# Altium footprint library Full_lib.PcbLib: 247 footprints (part 2 of 16)
Each footprint in its own frame and in the unit in brackets; x right, y up, seen from the top. Pads: shape width x height; smd on the part's side, far side on the other; paste and mask are expansions set on the pad; w line width, h text height; cw(c..) or ccw(c..) is an arc to the next point about the centre after c.
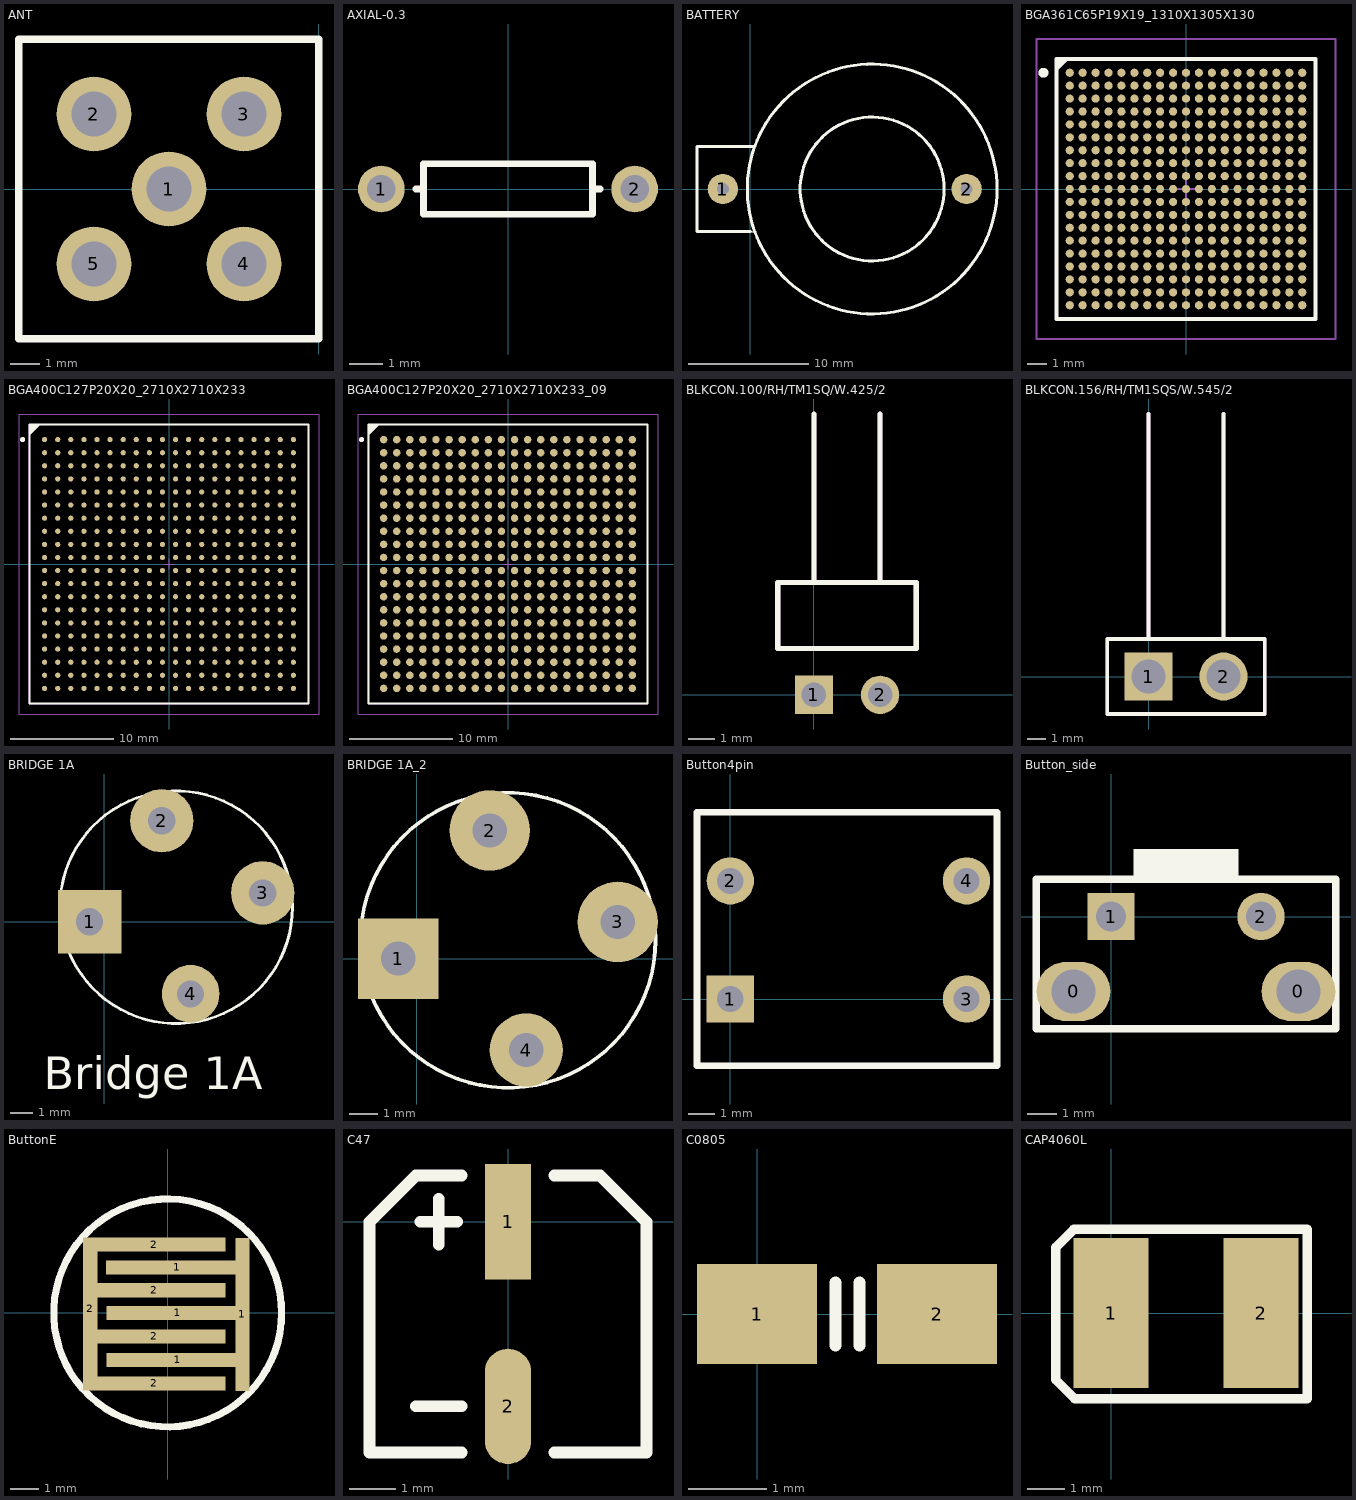
[diagram p1: the footprints below, top view; thin cyan lines are the x and y axes]

## ANT [mil]
pads (5):
  round 100 hole 60: 1(-200,0) 2(-300,100) 3(-100,100) 4(-100,-100) 5(-300,-100)
Top Overlay:
  lines w10: -400,-200 -400,200 0,200 0,-200 -400,-200

## AXIAL-0.3 [mm] "Axial Device, Thru-Hole; 2 Leads; 0.3 in Pin Spacing"
height 1.524
pads (2):
  round 1.4 hole 0.85: 1(-3.81,0) 2(3.81,0)
Top Overlay:
  lines w0.2: -2.769,0 -2.54,0 ; 2.769,0 2.54,0 ; 2.54,0 2.54,0.762 -2.54,0.762 -2.54,-0.762 2.54,-0.762 2.54,0

## BATTERY [mil]
pads (2):
  round 100 hole 40: 1(-90,0) 2(710,0)
Top Overlay:
  circle w10: c400,0 r410
  circle w10: c400,0 r236.33
  lines w3.94: 0,-140 15,-140
  lines w10: 0,-140 -175,-140 -175,140 15,140

## BGA361C65P19X19_1310X1305X130 [mm] "BGA, 361-Leads, Body 13.1x13.1mm,  Pitch 0.65mm"
height 1.3
pads (361):
  round 0.41 smd: A1(-5.85,5.85) A2(-5.2,5.85) A3(-4.55,5.85) A4(-3.9,5.85) A5(-3.25,5.85) A6(-2.6,5.85) A7(-1.95,5.85) A8(-1.3,5.85) A9(-0.65,5.85) A10(0,5.85) A11(0.65,5.85) A12(1.3,5.85) A13(1.95,5.85) A14(2.6,5.85) A15(3.25,5.85) A16(3.9,5.85) A17(4.55,5.85) A18(5.2,5.85) A19(5.85,5.85) B1(-5.85,5.2) B2(-5.2,5.2) B3(-4.55,5.2) B4(-3.9,5.2) B5(-3.25,5.2) B6(-2.6,5.2) B7(-1.95,5.2) B8(-1.3,5.2) B9(-0.65,5.2) B10(0,5.2) B11(0.65,5.2) B12(1.3,5.2) B13(1.95,5.2) B14(2.6,5.2) B15(3.25,5.2) B16(3.9,5.2) B17(4.55,5.2) B18(5.2,5.2) B19(5.85,5.2) C1(-5.85,4.55) C2(-5.2,4.55) C3(-4.55,4.55) C4(-3.9,4.55) C5(-3.25,4.55) C6(-2.6,4.55) C7(-1.95,4.55) C8(-1.3,4.55) C9(-0.65,4.55) C10(0,4.55) C11(0.65,4.55) C12(1.3,4.55) C13(1.95,4.55) C14(2.6,4.55) C15(3.25,4.55) C16(3.9,4.55) C17(4.55,4.55) C18(5.2,4.55) C19(5.85,4.55) D1(-5.85,3.9) D2(-5.2,3.9) D3(-4.55,3.9) D4(-3.9,3.9) D5(-3.25,3.9) D6(-2.6,3.9) D7(-1.95,3.9) D8(-1.3,3.9) D9(-0.65,3.9) D10(0,3.9) D11(0.65,3.9) D12(1.3,3.9) D13(1.95,3.9) D14(2.6,3.9) D15(3.25,3.9) D16(3.9,3.9) D17(4.55,3.9) D18(5.2,3.9) D19(5.85,3.9) E1(-5.85,3.25) E2(-5.2,3.25) E3(-4.55,3.25) E4(-3.9,3.25) E5(-3.25,3.25) E6(-2.6,3.25) E7(-1.95,3.25) E8(-1.3,3.25) E9(-0.65,3.25) E10(0,3.25) E11(0.65,3.25) E12(1.3,3.25) E13(1.95,3.25) E14(2.6,3.25) E15(3.25,3.25) E16(3.9,3.25) E17(4.55,3.25) E18(5.2,3.25) E19(5.85,3.25) F1(-5.85,2.6) F2(-5.2,2.6) F3(-4.55,2.6) F4(-3.9,2.6) F5(-3.25,2.6) F6(-2.6,2.6) F7(-1.95,2.6) F8(-1.3,2.6) F9(-0.65,2.6) F10(0,2.6) F11(0.65,2.6) F12(1.3,2.6) F13(1.95,2.6) F14(2.6,2.6) F15(3.25,2.6) F16(3.9,2.6) F17(4.55,2.6) F18(5.2,2.6) F19(5.85,2.6) G1(-5.85,1.95) G2(-5.2,1.95) G3(-4.55,1.95) G4(-3.9,1.95) G5(-3.25,1.95) G6(-2.6,1.95) G7(-1.95,1.95) G8(-1.3,1.95) G9(-0.65,1.95) G10(0,1.95) G11(0.65,1.95) G12(1.3,1.95) G13(1.95,1.95) G14(2.6,1.95) G15(3.25,1.95) G16(3.9,1.95) G17(4.55,1.95) G18(5.2,1.95) G19(5.85,1.95) H1(-5.85,1.3) H2(-5.2,1.3) H3(-4.55,1.3) H4(-3.9,1.3) H5(-3.25,1.3) H6(-2.6,1.3) H7(-1.95,1.3) H8(-1.3,1.3) H9(-0.65,1.3) H10(0,1.3) H11(0.65,1.3) H12(1.3,1.3) H13(1.95,1.3) H14(2.6,1.3) H15(3.25,1.3) H16(3.9,1.3) H17(4.55,1.3) H18(5.2,1.3) H19(5.85,1.3) J1(-5.85,0.65) J2(-5.2,0.65) J3(-4.55,0.65) J4(-3.9,0.65) J5(-3.25,0.65) J6(-2.6,0.65) J7(-1.95,0.65) J8(-1.3,0.65) J9(-0.65,0.65) J10(0,0.65) J11(0.65,0.65) J12(1.3,0.65) J13(1.95,0.65) J14(2.6,0.65) J15(3.25,0.65) J16(3.9,0.65) J17(4.55,0.65) J18(5.2,0.65) J19(5.85,0.65) K1(-5.85,0) K2(-5.2,0) K3(-4.55,0) K4(-3.9,0) K5(-3.25,0) K6(-2.6,0) K7(-1.95,0) K8(-1.3,0) K9(-0.65,0) K10(0,0) K11(0.65,0) K12(1.3,0) K13(1.95,0) K14(2.6,0) K15(3.25,0) K16(3.9,0) K17(4.55,0) K18(5.2,0) K19(5.85,0) L1(-5.85,-0.65) L2(-5.2,-0.65) L3(-4.55,-0.65) L4(-3.9,-0.65) L5(-3.25,-0.65) L6(-2.6,-0.65) L7(-1.95,-0.65) L8(-1.3,-0.65) L9(-0.65,-0.65) L10(0,-0.65) L11(0.65,-0.65) L12(1.3,-0.65) L13(1.95,-0.65) L14(2.6,-0.65) L15(3.25,-0.65) L16(3.9,-0.65) L17(4.55,-0.65) L18(5.2,-0.65) L19(5.85,-0.65) M1(-5.85,-1.3) M2(-5.2,-1.3) M3(-4.55,-1.3) M4(-3.9,-1.3) M5(-3.25,-1.3) M6(-2.6,-1.3) M7(-1.95,-1.3) M8(-1.3,-1.3) M9(-0.65,-1.3) M10(0,-1.3) M11(0.65,-1.3) M12(1.3,-1.3) M13(1.95,-1.3) M14(2.6,-1.3) M15(3.25,-1.3) M16(3.9,-1.3) M17(4.55,-1.3) M18(5.2,-1.3) M19(5.85,-1.3) N1(-5.85,-1.95) N2(-5.2,-1.95) N3(-4.55,-1.95) N4(-3.9,-1.95) N5(-3.25,-1.95) N6(-2.6,-1.95) N7(-1.95,-1.95) N8(-1.3,-1.95) N9(-0.65,-1.95) N10(0,-1.95) N11(0.65,-1.95) N12(1.3,-1.95) N13(1.95,-1.95) N14(2.6,-1.95) N15(3.25,-1.95) N16(3.9,-1.95) N17(4.55,-1.95) N18(5.2,-1.95) N19(5.85,-1.95) P1(-5.85,-2.6) P2(-5.2,-2.6) P3(-4.55,-2.6) P4(-3.9,-2.6) P5(-3.25,-2.6) P6(-2.6,-2.6) P7(-1.95,-2.6) P8(-1.3,-2.6) P9(-0.65,-2.6) P10(0,-2.6) P11(0.65,-2.6) P12(1.3,-2.6) P13(1.95,-2.6) P14(2.6,-2.6) P15(3.25,-2.6) P16(3.9,-2.6) P17(4.55,-2.6) P18(5.2,-2.6) P19(5.85,-2.6) R1(-5.85,-3.25) R2(-5.2,-3.25) R3(-4.55,-3.25) R4(-3.9,-3.25) R5(-3.25,-3.25) R6(-2.6,-3.25) R7(-1.95,-3.25) R8(-1.3,-3.25) R9(-0.65,-3.25) R10(0,-3.25) R11(0.65,-3.25) R12(1.3,-3.25) R13(1.95,-3.25) R14(2.6,-3.25) R15(3.25,-3.25) R16(3.9,-3.25) R17(4.55,-3.25) R18(5.2,-3.25) R19(5.85,-3.25) T1(-5.85,-3.9) T2(-5.2,-3.9) T3(-4.55,-3.9) T4(-3.9,-3.9) T5(-3.25,-3.9) T6(-2.6,-3.9) T7(-1.95,-3.9) T8(-1.3,-3.9) T9(-0.65,-3.9) T10(0,-3.9) T11(0.65,-3.9) T12(1.3,-3.9) T13(1.95,-3.9) T14(2.6,-3.9) T15(3.25,-3.9) T16(3.9,-3.9) T17(4.55,-3.9) T18(5.2,-3.9) T19(5.85,-3.9) U1(-5.85,-4.55) U2(-5.2,-4.55) U3(-4.55,-4.55) U4(-3.9,-4.55) U5(-3.25,-4.55) U6(-2.6,-4.55) U7(-1.95,-4.55) U8(-1.3,-4.55) U9(-0.65,-4.55) U10(0,-4.55) U11(0.65,-4.55) U12(1.3,-4.55) U13(1.95,-4.55) U14(2.6,-4.55) U15(3.25,-4.55) U16(3.9,-4.55) U17(4.55,-4.55) U18(5.2,-4.55) U19(5.85,-4.55) V1(-5.85,-5.2) V2(-5.2,-5.2) V3(-4.55,-5.2) V4(-3.9,-5.2) V5(-3.25,-5.2) V6(-2.6,-5.2) V7(-1.95,-5.2) V8(-1.3,-5.2) V9(-0.65,-5.2) V10(0,-5.2) V11(0.65,-5.2) V12(1.3,-5.2) V13(1.95,-5.2) V14(2.6,-5.2) V15(3.25,-5.2) V16(3.9,-5.2) V17(4.55,-5.2) V18(5.2,-5.2) V19(5.85,-5.2) W1(-5.85,-5.85) W2(-5.2,-5.85) W3(-4.55,-5.85) W4(-3.9,-5.85) W5(-3.25,-5.85) W6(-2.6,-5.85) W7(-1.95,-5.85) W8(-1.3,-5.85) W9(-0.65,-5.85) W10(0,-5.85) W11(0.65,-5.85) W12(1.3,-5.85) W13(1.95,-5.85) W14(2.6,-5.85) W15(3.25,-5.85) W16(3.9,-5.85) W17(4.55,-5.85) W18(5.2,-5.85) W19(5.85,-5.85)
Top Overlay:
  circle w0.25: c-7.175,5.85 r0.125
  region: -6.005,6.55 -6.525,6.03 -6.525,6.55
  lines w0.2: -6.525,6.03 -6.005,6.55 ; -6.525,-6.55 -6.525,6.55 6.525,6.55 6.525,-6.55 -6.525,-6.55
Mechanical 13:
  lines w0.1: -6.525,-6.55 -6.525,6.55 6.525,6.55 6.525,-6.55 -6.525,-6.55
Mechanical 15:
  lines w0.1: -0.5,0 0.5,0 ; 0,-0.5 0,0.5 ; -7.525,-7.55 -7.525,7.55 7.525,7.55 7.525,-7.55 -7.525,-7.55
3D body: height 1.3, standoff 0.33, extent -6.525,-6.55 6.525,6.55

## BGA400C127P20X20_2710X2710X233 [mm] "BGA, 400-Leads, Body 27.1x27.1mm,  Pitch 1.27mm"
height 2.33
pads (400):
  round 0.5 smd: A1(-12.065,12.065) A2(-10.795,12.065) A3(-9.525,12.065) A4(-8.255,12.065) A5(-6.985,12.065) A6(-5.715,12.065) A7(-4.445,12.065) A8(-3.175,12.065) A9(-1.905,12.065) A10(-0.635,12.065) A11(0.635,12.065) A12(1.905,12.065) A13(3.175,12.065) A14(4.445,12.065) A15(5.715,12.065) A16(6.985,12.065) A17(8.255,12.065) A18(9.525,12.065) A19(10.795,12.065) A20(12.065,12.065) B1(-12.065,10.795) B2(-10.795,10.795) B3(-9.525,10.795) B4(-8.255,10.795) B5(-6.985,10.795) B6(-5.715,10.795) B7(-4.445,10.795) B8(-3.175,10.795) B9(-1.905,10.795) B10(-0.635,10.795) B11(0.635,10.795) B12(1.905,10.795) B13(3.175,10.795) B14(4.445,10.795) B15(5.715,10.795) B16(6.985,10.795) B17(8.255,10.795) B18(9.525,10.795) B19(10.795,10.795) B20(12.065,10.795) C1(-12.065,9.525) C2(-10.795,9.525) C3(-9.525,9.525) C4(-8.255,9.525) C5(-6.985,9.525) C6(-5.715,9.525) C7(-4.445,9.525) C8(-3.175,9.525) C9(-1.905,9.525) C10(-0.635,9.525) C11(0.635,9.525) C12(1.905,9.525) C13(3.175,9.525) C14(4.445,9.525) C15(5.715,9.525) C16(6.985,9.525) C17(8.255,9.525) C18(9.525,9.525) C19(10.795,9.525) C20(12.065,9.525) D1(-12.065,8.255) D2(-10.795,8.255) D3(-9.525,8.255) D4(-8.255,8.255) D5(-6.985,8.255) D6(-5.715,8.255) D7(-4.445,8.255) D8(-3.175,8.255) D9(-1.905,8.255) D10(-0.635,8.255) D11(0.635,8.255) D12(1.905,8.255) D13(3.175,8.255) D14(4.445,8.255) D15(5.715,8.255) D16(6.985,8.255) D17(8.255,8.255) D18(9.525,8.255) D19(10.795,8.255) D20(12.065,8.255) E1(-12.065,6.985) E2(-10.795,6.985) E3(-9.525,6.985) E4(-8.255,6.985) E5(-6.985,6.985) E6(-5.715,6.985) E7(-4.445,6.985) E8(-3.175,6.985) E9(-1.905,6.985) E10(-0.635,6.985) E11(0.635,6.985) E12(1.905,6.985) E13(3.175,6.985) E14(4.445,6.985) E15(5.715,6.985) E16(6.985,6.985) E17(8.255,6.985) E18(9.525,6.985) E19(10.795,6.985) E20(12.065,6.985) F1(-12.065,5.715) F2(-10.795,5.715) F3(-9.525,5.715) F4(-8.255,5.715) F5(-6.985,5.715) F6(-5.715,5.715) F7(-4.445,5.715) F8(-3.175,5.715) F9(-1.905,5.715) F10(-0.635,5.715) F11(0.635,5.715) F12(1.905,5.715) F13(3.175,5.715) F14(4.445,5.715) F15(5.715,5.715) F16(6.985,5.715) F17(8.255,5.715) F18(9.525,5.715) F19(10.795,5.715) F20(12.065,5.715) G1(-12.065,4.445) G2(-10.795,4.445) G3(-9.525,4.445) G4(-8.255,4.445) G5(-6.985,4.445) G6(-5.715,4.445) G7(-4.445,4.445) G8(-3.175,4.445) G9(-1.905,4.445) G10(-0.635,4.445) G11(0.635,4.445) G12(1.905,4.445) G13(3.175,4.445) G14(4.445,4.445) G15(5.715,4.445) G16(6.985,4.445) G17(8.255,4.445) G18(9.525,4.445) G19(10.795,4.445) G20(12.065,4.445) H1(-12.065,3.175) H2(-10.795,3.175) H3(-9.525,3.175) H4(-8.255,3.175) H5(-6.985,3.175) H6(-5.715,3.175) H7(-4.445,3.175) H8(-3.175,3.175) H9(-1.905,3.175) H10(-0.635,3.175) H11(0.635,3.175) H12(1.905,3.175) H13(3.175,3.175) H14(4.445,3.175) H15(5.715,3.175) H16(6.985,3.175) H17(8.255,3.175) H18(9.525,3.175) H19(10.795,3.175) H20(12.065,3.175) J1(-12.065,1.905) J2(-10.795,1.905) J3(-9.525,1.905) J4(-8.255,1.905) J5(-6.985,1.905) J6(-5.715,1.905) J7(-4.445,1.905) J8(-3.175,1.905) J9(-1.905,1.905) J10(-0.635,1.905) J11(0.635,1.905) J12(1.905,1.905) J13(3.175,1.905) J14(4.445,1.905) J15(5.715,1.905) J16(6.985,1.905) J17(8.255,1.905) J18(9.525,1.905) J19(10.795,1.905) J20(12.065,1.905) K1(-12.065,0.635) K2(-10.795,0.635) K3(-9.525,0.635) K4(-8.255,0.635) K5(-6.985,0.635) K6(-5.715,0.635) K7(-4.445,0.635) K8(-3.175,0.635) K9(-1.905,0.635) K10(-0.635,0.635) K11(0.635,0.635) K12(1.905,0.635) K13(3.175,0.635) K14(4.445,0.635) K15(5.715,0.635) K16(6.985,0.635) K17(8.255,0.635) K18(9.525,0.635) K19(10.795,0.635) K20(12.065,0.635) L1(-12.065,-0.635) L2(-10.795,-0.635) L3(-9.525,-0.635) L4(-8.255,-0.635) L5(-6.985,-0.635) L6(-5.715,-0.635) L7(-4.445,-0.635) L8(-3.175,-0.635) L9(-1.905,-0.635) L10(-0.635,-0.635) L11(0.635,-0.635) L12(1.905,-0.635) L13(3.175,-0.635) L14(4.445,-0.635) L15(5.715,-0.635) L16(6.985,-0.635) L17(8.255,-0.635) L18(9.525,-0.635) L19(10.795,-0.635) L20(12.065,-0.635) M1(-12.065,-1.905) M2(-10.795,-1.905) M3(-9.525,-1.905) M4(-8.255,-1.905) M5(-6.985,-1.905) M6(-5.715,-1.905) M7(-4.445,-1.905) M8(-3.175,-1.905) M9(-1.905,-1.905) M10(-0.635,-1.905) M11(0.635,-1.905) M12(1.905,-1.905) M13(3.175,-1.905) M14(4.445,-1.905) M15(5.715,-1.905) M16(6.985,-1.905) M17(8.255,-1.905) M18(9.525,-1.905) M19(10.795,-1.905) M20(12.065,-1.905) N1(-12.065,-3.175) N2(-10.795,-3.175) N3(-9.525,-3.175) N4(-8.255,-3.175) N5(-6.985,-3.175) N6(-5.715,-3.175) N7(-4.445,-3.175) N8(-3.175,-3.175) N9(-1.905,-3.175) N10(-0.635,-3.175) N11(0.635,-3.175) N12(1.905,-3.175) N13(3.175,-3.175) N14(4.445,-3.175) N15(5.715,-3.175) N16(6.985,-3.175) N17(8.255,-3.175) N18(9.525,-3.175) N19(10.795,-3.175) N20(12.065,-3.175) P1(-12.065,-4.445) P2(-10.795,-4.445) P3(-9.525,-4.445) P4(-8.255,-4.445) P5(-6.985,-4.445) P6(-5.715,-4.445) P7(-4.445,-4.445) P8(-3.175,-4.445) P9(-1.905,-4.445) P10(-0.635,-4.445) P11(0.635,-4.445) P12(1.905,-4.445) P13(3.175,-4.445) P14(4.445,-4.445) P15(5.715,-4.445) P16(6.985,-4.445) P17(8.255,-4.445) P18(9.525,-4.445) P19(10.795,-4.445) P20(12.065,-4.445) R1(-12.065,-5.715) R2(-10.795,-5.715) R3(-9.525,-5.715) R4(-8.255,-5.715) R5(-6.985,-5.715) R6(-5.715,-5.715) R7(-4.445,-5.715) R8(-3.175,-5.715) R9(-1.905,-5.715) R10(-0.635,-5.715) R11(0.635,-5.715) R12(1.905,-5.715) R13(3.175,-5.715) R14(4.445,-5.715) R15(5.715,-5.715) R16(6.985,-5.715) R17(8.255,-5.715) R18(9.525,-5.715) R19(10.795,-5.715) R20(12.065,-5.715) T1(-12.065,-6.985) T2(-10.795,-6.985) T3(-9.525,-6.985) T4(-8.255,-6.985) T5(-6.985,-6.985) T6(-5.715,-6.985) T7(-4.445,-6.985) T8(-3.175,-6.985) T9(-1.905,-6.985) T10(-0.635,-6.985) T11(0.635,-6.985) T12(1.905,-6.985) T13(3.175,-6.985) T14(4.445,-6.985) T15(5.715,-6.985) T16(6.985,-6.985) T17(8.255,-6.985) T18(9.525,-6.985) T19(10.795,-6.985) T20(12.065,-6.985) U1(-12.065,-8.255) U2(-10.795,-8.255) U3(-9.525,-8.255) U4(-8.255,-8.255) U5(-6.985,-8.255) U6(-5.715,-8.255) U7(-4.445,-8.255) U8(-3.175,-8.255) U9(-1.905,-8.255) U10(-0.635,-8.255) U11(0.635,-8.255) U12(1.905,-8.255) U13(3.175,-8.255) U14(4.445,-8.255) U15(5.715,-8.255) U16(6.985,-8.255) U17(8.255,-8.255) U18(9.525,-8.255) U19(10.795,-8.255) U20(12.065,-8.255) V1(-12.065,-9.525) V2(-10.795,-9.525) V3(-9.525,-9.525) V4(-8.255,-9.525) V5(-6.985,-9.525) V6(-5.715,-9.525) V7(-4.445,-9.525) V8(-3.175,-9.525) V9(-1.905,-9.525) V10(-0.635,-9.525) V11(0.635,-9.525) V12(1.905,-9.525) V13(3.175,-9.525) V14(4.445,-9.525) V15(5.715,-9.525) V16(6.985,-9.525) V17(8.255,-9.525) V18(9.525,-9.525) V19(10.795,-9.525) V20(12.065,-9.525) W1(-12.065,-10.795) W2(-10.795,-10.795) W3(-9.525,-10.795) W4(-8.255,-10.795) W5(-6.985,-10.795) W6(-5.715,-10.795) W7(-4.445,-10.795) W8(-3.175,-10.795) W9(-1.905,-10.795) W10(-0.635,-10.795) W11(0.635,-10.795) W12(1.905,-10.795) W13(3.175,-10.795) W14(4.445,-10.795) W15(5.715,-10.795) W16(6.985,-10.795) W17(8.255,-10.795) W18(9.525,-10.795) W19(10.795,-10.795) W20(12.065,-10.795) Y1(-12.065,-12.065) Y2(-10.795,-12.065) Y3(-9.525,-12.065) Y4(-8.255,-12.065) Y5(-6.985,-12.065) Y6(-5.715,-12.065) Y7(-4.445,-12.065) Y8(-3.175,-12.065) Y9(-1.905,-12.065) Y10(-0.635,-12.065) Y11(0.635,-12.065) Y12(1.905,-12.065) Y13(3.175,-12.065) Y14(4.445,-12.065) Y15(5.715,-12.065) Y16(6.985,-12.065) Y17(8.255,-12.065) Y18(9.525,-12.065) Y19(10.795,-12.065) Y20(12.065,-12.065)
Top Overlay:
  circle w0.25: c-14.2,12.065 r0.125
  region: -12.55,13.55 -13.55,12.55 -13.55,13.55
  lines w0.2: -13.55,12.55 -12.55,13.55 ; -13.55,-13.55 -13.55,13.55 13.55,13.55 13.55,-13.55 -13.55,-13.55
Mechanical 13:
  lines w0.1: -13.55,-13.55 -13.55,13.55 13.55,13.55 13.55,-13.55 -13.55,-13.55
Mechanical 15:
  lines w0.1: -0.5,0 0.5,0 ; 0,-0.5 0,0.5 ; -14.55,-14.55 -14.55,14.55 14.55,14.55 14.55,-14.55 -14.55,-14.55
3D body: height 2.33, standoff 0.5, extent -13.55,-13.55 13.55,13.55

## BGA400C127P20X20_2710X2710X233_09 [mm] "BGA, 400-Leads, Body 27.1x27.1mm,  Pitch 1.27mm"
height 2.33
pads (400):
  round 0.72 smd: A1(-12.065,12.065) A2(-10.795,12.065) A3(-9.525,12.065) A4(-8.255,12.065) A5(-6.985,12.065) A6(-5.715,12.065) A7(-4.445,12.065) A8(-3.175,12.065) A9(-1.905,12.065) A10(-0.635,12.065) A11(0.635,12.065) A12(1.905,12.065) A13(3.175,12.065) A14(4.445,12.065) A15(5.715,12.065) A16(6.985,12.065) A17(8.255,12.065) A18(9.525,12.065) A19(10.795,12.065) A20(12.065,12.065) B1(-12.065,10.795) B2(-10.795,10.795) B3(-9.525,10.795) B4(-8.255,10.795) B5(-6.985,10.795) B6(-5.715,10.795) B7(-4.445,10.795) B8(-3.175,10.795) B9(-1.905,10.795) B10(-0.635,10.795) B11(0.635,10.795) B12(1.905,10.795) B13(3.175,10.795) B14(4.445,10.795) B15(5.715,10.795) B16(6.985,10.795) B17(8.255,10.795) B18(9.525,10.795) B19(10.795,10.795) B20(12.065,10.795) C1(-12.065,9.525) C2(-10.795,9.525) C3(-9.525,9.525) C4(-8.255,9.525) C5(-6.985,9.525) C6(-5.715,9.525) C7(-4.445,9.525) C8(-3.175,9.525) C9(-1.905,9.525) C10(-0.635,9.525) C11(0.635,9.525) C12(1.905,9.525) C13(3.175,9.525) C14(4.445,9.525) C15(5.715,9.525) C16(6.985,9.525) C17(8.255,9.525) C18(9.525,9.525) C19(10.795,9.525) C20(12.065,9.525) D1(-12.065,8.255) D2(-10.795,8.255) D3(-9.525,8.255) D4(-8.255,8.255) D5(-6.985,8.255) D6(-5.715,8.255) D7(-4.445,8.255) D8(-3.175,8.255) D9(-1.905,8.255) D10(-0.635,8.255) D11(0.635,8.255) D12(1.905,8.255) D13(3.175,8.255) D14(4.445,8.255) D15(5.715,8.255) D16(6.985,8.255) D17(8.255,8.255) D18(9.525,8.255) D19(10.795,8.255) D20(12.065,8.255) E1(-12.065,6.985) E2(-10.795,6.985) E3(-9.525,6.985) E4(-8.255,6.985) E5(-6.985,6.985) E6(-5.715,6.985) E7(-4.445,6.985) E8(-3.175,6.985) E9(-1.905,6.985) E10(-0.635,6.985) E11(0.635,6.985) E12(1.905,6.985) E13(3.175,6.985) E14(4.445,6.985) E15(5.715,6.985) E16(6.985,6.985) E17(8.255,6.985) E18(9.525,6.985) E19(10.795,6.985) E20(12.065,6.985) F1(-12.065,5.715) F2(-10.795,5.715) F3(-9.525,5.715) F4(-8.255,5.715) F5(-6.985,5.715) F6(-5.715,5.715) F7(-4.445,5.715) F8(-3.175,5.715) F9(-1.905,5.715) F10(-0.635,5.715) F11(0.635,5.715) F12(1.905,5.715) F13(3.175,5.715) F14(4.445,5.715) F15(5.715,5.715) F16(6.985,5.715) F17(8.255,5.715) F18(9.525,5.715) F19(10.795,5.715) F20(12.065,5.715) G1(-12.065,4.445) G2(-10.795,4.445) G3(-9.525,4.445) G4(-8.255,4.445) G5(-6.985,4.445) G6(-5.715,4.445) G7(-4.445,4.445) G8(-3.175,4.445) G9(-1.905,4.445) G10(-0.635,4.445) G11(0.635,4.445) G12(1.905,4.445) G13(3.175,4.445) G14(4.445,4.445) G15(5.715,4.445) G16(6.985,4.445) G17(8.255,4.445) G18(9.525,4.445) G19(10.795,4.445) G20(12.065,4.445) H1(-12.065,3.175) H2(-10.795,3.175) H3(-9.525,3.175) H4(-8.255,3.175) H5(-6.985,3.175) H6(-5.715,3.175) H7(-4.445,3.175) H8(-3.175,3.175) H9(-1.905,3.175) H10(-0.635,3.175) H11(0.635,3.175) H12(1.905,3.175) H13(3.175,3.175) H14(4.445,3.175) H15(5.715,3.175) H16(6.985,3.175) H17(8.255,3.175) H18(9.525,3.175) H19(10.795,3.175) H20(12.065,3.175) J1(-12.065,1.905) J2(-10.795,1.905) J3(-9.525,1.905) J4(-8.255,1.905) J5(-6.985,1.905) J6(-5.715,1.905) J7(-4.445,1.905) J8(-3.175,1.905) J9(-1.905,1.905) J10(-0.635,1.905) J11(0.635,1.905) J12(1.905,1.905) J13(3.175,1.905) J14(4.445,1.905) J15(5.715,1.905) J16(6.985,1.905) J17(8.255,1.905) J18(9.525,1.905) J19(10.795,1.905) J20(12.065,1.905) K1(-12.065,0.635) K2(-10.795,0.635) K3(-9.525,0.635) K4(-8.255,0.635) K5(-6.985,0.635) K6(-5.715,0.635) K7(-4.445,0.635) K8(-3.175,0.635) K9(-1.905,0.635) K10(-0.635,0.635) K11(0.635,0.635) K12(1.905,0.635) K13(3.175,0.635) K14(4.445,0.635) K15(5.715,0.635) K16(6.985,0.635) K17(8.255,0.635) K18(9.525,0.635) K19(10.795,0.635) K20(12.065,0.635) L1(-12.065,-0.635) L2(-10.795,-0.635) L3(-9.525,-0.635) L4(-8.255,-0.635) L5(-6.985,-0.635) L6(-5.715,-0.635) L7(-4.445,-0.635) L8(-3.175,-0.635) L9(-1.905,-0.635) L10(-0.635,-0.635) L11(0.635,-0.635) L12(1.905,-0.635) L13(3.175,-0.635) L14(4.445,-0.635) L15(5.715,-0.635) L16(6.985,-0.635) L17(8.255,-0.635) L18(9.525,-0.635) L19(10.795,-0.635) L20(12.065,-0.635) M1(-12.065,-1.905) M2(-10.795,-1.905) M3(-9.525,-1.905) M4(-8.255,-1.905) M5(-6.985,-1.905) M6(-5.715,-1.905) M7(-4.445,-1.905) M8(-3.175,-1.905) M9(-1.905,-1.905) M10(-0.635,-1.905) M11(0.635,-1.905) M12(1.905,-1.905) M13(3.175,-1.905) M14(4.445,-1.905) M15(5.715,-1.905) M16(6.985,-1.905) M17(8.255,-1.905) M18(9.525,-1.905) M19(10.795,-1.905) M20(12.065,-1.905) N1(-12.065,-3.175) N2(-10.795,-3.175) N3(-9.525,-3.175) N4(-8.255,-3.175) N5(-6.985,-3.175) N6(-5.715,-3.175) N7(-4.445,-3.175) N8(-3.175,-3.175) N9(-1.905,-3.175) N10(-0.635,-3.175) N11(0.635,-3.175) N12(1.905,-3.175) N13(3.175,-3.175) N14(4.445,-3.175) N15(5.715,-3.175) N16(6.985,-3.175) N17(8.255,-3.175) N18(9.525,-3.175) N19(10.795,-3.175) N20(12.065,-3.175) P1(-12.065,-4.445) P2(-10.795,-4.445) P3(-9.525,-4.445) P4(-8.255,-4.445) P5(-6.985,-4.445) P6(-5.715,-4.445) P7(-4.445,-4.445) P8(-3.175,-4.445) P9(-1.905,-4.445) P10(-0.635,-4.445) P11(0.635,-4.445) P12(1.905,-4.445) P13(3.175,-4.445) P14(4.445,-4.445) P15(5.715,-4.445) P16(6.985,-4.445) P17(8.255,-4.445) P18(9.525,-4.445) P19(10.795,-4.445) P20(12.065,-4.445) R1(-12.065,-5.715) R2(-10.795,-5.715) R3(-9.525,-5.715) R4(-8.255,-5.715) R5(-6.985,-5.715) R6(-5.715,-5.715) R7(-4.445,-5.715) R8(-3.175,-5.715) R9(-1.905,-5.715) R10(-0.635,-5.715) R11(0.635,-5.715) R12(1.905,-5.715) R13(3.175,-5.715) R14(4.445,-5.715) R15(5.715,-5.715) R16(6.985,-5.715) R17(8.255,-5.715) R18(9.525,-5.715) R19(10.795,-5.715) R20(12.065,-5.715) T1(-12.065,-6.985) T2(-10.795,-6.985) T3(-9.525,-6.985) T4(-8.255,-6.985) T5(-6.985,-6.985) T6(-5.715,-6.985) T7(-4.445,-6.985) T8(-3.175,-6.985) T9(-1.905,-6.985) T10(-0.635,-6.985) T11(0.635,-6.985) T12(1.905,-6.985) T13(3.175,-6.985) T14(4.445,-6.985) T15(5.715,-6.985) T16(6.985,-6.985) T17(8.255,-6.985) T18(9.525,-6.985) T19(10.795,-6.985) T20(12.065,-6.985) U1(-12.065,-8.255) U2(-10.795,-8.255) U3(-9.525,-8.255) U4(-8.255,-8.255) U5(-6.985,-8.255) U6(-5.715,-8.255) U7(-4.445,-8.255) U8(-3.175,-8.255) U9(-1.905,-8.255) U10(-0.635,-8.255) U11(0.635,-8.255) U12(1.905,-8.255) U13(3.175,-8.255) U14(4.445,-8.255) U15(5.715,-8.255) U16(6.985,-8.255) U17(8.255,-8.255) U18(9.525,-8.255) U19(10.795,-8.255) U20(12.065,-8.255) V1(-12.065,-9.525) V2(-10.795,-9.525) V3(-9.525,-9.525) V4(-8.255,-9.525) V5(-6.985,-9.525) V6(-5.715,-9.525) V7(-4.445,-9.525) V8(-3.175,-9.525) V9(-1.905,-9.525) V10(-0.635,-9.525) V11(0.635,-9.525) V12(1.905,-9.525) V13(3.175,-9.525) V14(4.445,-9.525) V15(5.715,-9.525) V16(6.985,-9.525) V17(8.255,-9.525) V18(9.525,-9.525) V19(10.795,-9.525) V20(12.065,-9.525) W1(-12.065,-10.795) W2(-10.795,-10.795) W3(-9.525,-10.795) W4(-8.255,-10.795) W5(-6.985,-10.795) W6(-5.715,-10.795) W7(-4.445,-10.795) W8(-3.175,-10.795) W9(-1.905,-10.795) W10(-0.635,-10.795) W11(0.635,-10.795) W12(1.905,-10.795) W13(3.175,-10.795) W14(4.445,-10.795) W15(5.715,-10.795) W16(6.985,-10.795) W17(8.255,-10.795) W18(9.525,-10.795) W19(10.795,-10.795) W20(12.065,-10.795) Y1(-12.065,-12.065) Y2(-10.795,-12.065) Y3(-9.525,-12.065) Y4(-8.255,-12.065) Y5(-6.985,-12.065) Y6(-5.715,-12.065) Y7(-4.445,-12.065) Y8(-3.175,-12.065) Y9(-1.905,-12.065) Y10(-0.635,-12.065) Y11(0.635,-12.065) Y12(1.905,-12.065) Y13(3.175,-12.065) Y14(4.445,-12.065) Y15(5.715,-12.065) Y16(6.985,-12.065) Y17(8.255,-12.065) Y18(9.525,-12.065) Y19(10.795,-12.065) Y20(12.065,-12.065)
Top Overlay:
  circle w0.25: c-14.2,12.065 r0.125
  region: -12.55,13.55 -13.55,12.55 -13.55,13.55
  lines w0.2: -13.55,12.55 -12.55,13.55 ; -13.55,-13.55 13.55,-13.55 13.55,13.55 -13.55,13.55 -13.55,-13.55
Mechanical 13:
  lines w0.1: -13.55,-13.55 13.55,-13.55 13.55,13.55 -13.55,13.55 -13.55,-13.55
Mechanical 15:
  lines w0.1: -0.5,0 0.5,0 ; 0,-0.5 0,0.5 ; -14.55,-14.55 14.55,-14.55 14.55,14.55 -14.55,14.55 -14.55,-14.55
3D body: height 2.33, standoff 0.5, extent -13.55,-13.55 13.55,13.55

## BLKCON.100/RH/TM1SQ/W.425/2 [mil]
pads (2):
  rect 58x58 hole 37: 1(0,0)
  round 58 hole 37: 2(100,0)
Top Overlay:
  lines w8: 0,175 0,425 ; 100,175 100,425 ; -55,70 -55,170 0,170 155,170 155,70 -55,70
Mechanical 1:
  lines w8: 0,175 0,425 ; 100,175 100,425 ; -55,70 -55,170 0,170 155,170 155,70 -55,70

## BLKCON.156/RH/TM1SQS/W.545/2 [mil]
pads (2):
  rect 100x100 hole 70: 1(0,0)
  round 100 hole 70: 2(156,0)
Top Overlay:
  lines w8: 0,78 0,546 ; 156,78 156,546 ; -85.8,-78 0,-78 156,-78 234,-78 241.8,-78 241.8,78 234,78 -85.8,78 -85.8,-78
Mechanical 1:
  lines w8: 0,78 0,546 ; 156,78 156,546 ; -85.8,-78 0,-78 156,-78 234,-78 241.8,-78 241.8,78 234,78 -85.8,78 -85.8,-78

## BRIDGE 1A [mil]
pads (4):
  rect 110x110 hole 47: 1(-25,0)
  round 110 hole 47: 2(100,175) 3(275,50)
  round 100 hole 47: 4(150,-125)
Top Overlay:
  circle w5: c125,25 r201.56
  text "Bridge 1A" at -105,-290 h56.25

## BRIDGE 1A_2 [mil]
pads (4):
  rect 110x110 hole 47: 1(-25,0)
  round 110 hole 47: 2(100,175) 3(275,50)
  round 100 hole 47: 4(150,-125)
Top Overlay:
  circle w5: c125,25 r201.56

## Button4pin [mm]
height 3
pads (4):
  rect 1.8x1.8 hole 1: 1(0,0)
  round 1.8 hole 1: 2(0,4.5) 3(9,0) 4(9,4.5)
Top Overlay:
  lines w0.254: -1.27,-2.54 -1.27,7.112 10.16,7.112 10.16,-2.54 -1.27,-2.54

## Button_side [mm]
pads (4):
  oval 2.5x2 hole 1.5: 0(-1.27,-2.54) 0(6.35,-2.54)
  rect 1.6x1.6 hole 1: 1(0,0)
  round 1.6 hole 1: 2(5.08,0)
Top Overlay:
  rectangle: 0.762,1.27 4.318,2.286
  lines w0.254: -2.54,-3.81 7.62,-3.81 7.62,1.27 -2.54,1.27 -2.54,-3.81

## ButtonE [mil]
pads (9):
  rect 200x20 smd: 1(13,64) 1(14,-66) 1(14,0) 2(-19,-99) 2(-19,-33) 2(-19,32) 2(-19,96)
  rect 20x215 smd: 1(105,-2)
  rect 20x200 smd: 2(-109,6)
Top Overlay:
  circle w10: c-0.11,0 r160.11

## C47 [mm]
pads (2):
  rect 1x2.5 smd: 1(0,0)
  oval 1x2.5 smd: 2(0,-4)
Top Overlay:
  lines w0.254: -2,-4 -1,-4 ; -1.9,0 -1.1,0 ; -1.5,-0.5 -1.5,0.5 ; -1,-5 -3,-5 -3,0 -2,1 -1,1 ; 1,-5 3,-5 3,0 2,1 1,1

## C0805 [mil]
pads (2):
  rect 60x50 smd: 1(0,0) 2(90,0)
Top Overlay:
  lines w6: 39.37,-15.75 39.37,15.75 ; 51.18,-15.75 51.18,15.75

## CAP4060L [mm]
pads (2):
  rect 2x4 smd: 1(0,0) 2(4,0)
Top Overlay:
  lines w0.254: -1.473,-1.778 -1.473,1.753 -0.991,2.235 5.232,2.235 5.232,-2.286 -0.965,-2.286 -1.473,-1.778